# Altium schematic symbol library IM66D130M.SchLib: 1 symbol
Pins are listed as number, name and electrical type; pins without a type are passive.

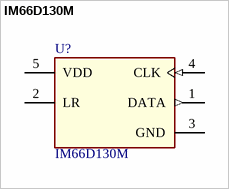
[diagram p0: symbol IM66D130M]

## IM66D130M
designator U?
Ultra-low power digital PDM XENSIV™ MEMS microphone,High quality audio capturing.; Manufacturer: Infineon Technologies; Manufacturer Order Number: IM66D130M; Package Reference: PG-TLGA-5-8
pins: 1 DATA (out) "PDM data output", 2 LR "PDM left/right select", 3 GND (power) "Ground", 4 CLK (in) "PDM clock input", 5 VDD (power) "Power supply"